# Altium schematic symbol library Resistor.SchLib: 141 symbols (part 2 of 4)
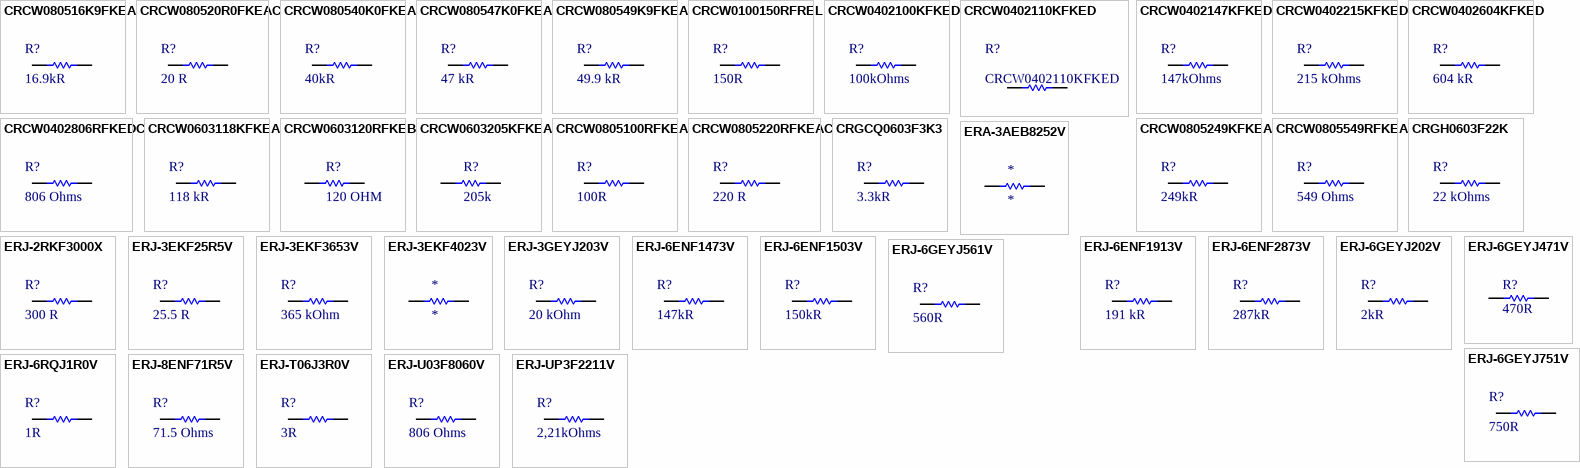
[diagram p4: symbols CRCW080516K9FKEA to ERJ-UP3F2211V]

## CRCW0402110KFKED
designator R?
RES SMD 110K OHM 1% 1/16W 0402; Manufacturer: Vishay; Power: 63mW; Rated Temperature: 70°C; Value: 110kR; Temperature Coefficient: 100ppm/°C; Working Voltage: 50V; Package Height: 0.35mm; Package Length: 1mm; Package Width: 0.5mm; Reference Standard: AEC-Q200; Supplier: Mouser; Supplier Part Number: 71-CRCW0402-110K-E3; Part Number: CRCW0402110KFKED; RoHS: Yes; Category: Chip SMD Resistors; Stock: 113495; Pricing: 1=0,1, 10=0,017, 50=0,017, 100=0,01, 1000=0,008, 10000=0,004 (USD); Mounting Technology: Surface Mount; Pins: 2; Package Shape: Rectangular; Case/Package: 0402; Terminal Finish: Nickel; Min Operating Temperature: -55°C; Max Operating Temperature: 155°C; Tolerance: 1%; JESD-609 Code: e3; Resistor Type: FIXED RESISTOR; Construction: Chip; Packaging: Tape and Reel; Technology: METAL GLAZE/THICK FILM; Termination: Wraparound; Reach SVHC Compliant: Yes; RoHS Compliant: Yes; ComponentLink1URL: https://datasheet.ciiva.com:443/pdfs/VipMasterIC/IC/VISH/VISH-S-A0007266705/VISH-S-A0007266705-1.pdf?src-supplier=IHS+Markit; ComponentLink1Description: https://datasheet.ciiva.com:443/pdfs/VipMasterIC/IC/VISH/VISH-S-A0007266705/VISH-S-A0007266705-1.pdf?src-supplier=IHS+Markit; ComponentLink2URL: https://datasheet.ciiva.com/11808/0900766b80d98824-11808998.pdf?src-supplier=Rs; ComponentLink2Description: https://datasheet.ciiva.com/11808/0900766b80d98824-11808998.pdf?src-supplier=Rs; ComponentLink3URL: https://datasheet.ciiva.com/2463/dcrcwe3-2463796.pdf?src-supplier=Digikey; ComponentLink3Description: https://datasheet.ciiva.com/2463/dcrcwe3-2463796.pdf?src-supplier=Digikey; ComponentLink4URL: https://datasheet.ciiva.com/2463/dcrcwe3-2463797.pdf?src-supplier=Digikey; ComponentLink4Description: https://datasheet.ciiva.com/2463/dcrcwe3-2463797.pdf?src-supplier=Digikey; ComponentLink5URL: https://datasheet.ciiva.com/2463/dcrcwe3-2463798.pdf?src-supplier=Digikey; ComponentLink5Description: https://datasheet.ciiva.com/2463/dcrcwe3-2463798.pdf?src-supplier=Digikey; ComponentLink6URL: https://datasheet.ciiva.com/3255/dcrcwe3-3255981.pdf?src-supplier=Avnet; ComponentLink6Description: https://datasheet.ciiva.com/3255/dcrcwe3-3255981.pdf?src-supplier=Avnet; ComponentLink7URL: https://datasheet.ciiva.com/22871/70201119-22871142.pdf?src-supplier=Allied+Electronics; ComponentLink7Description: https://datasheet.ciiva.com/22871/70201119-22871142.pdf?src-supplier=Allied+Electronics; ComponentLink8URL: https://datasheet.ciiva.com/16776/70201119-16776616.pdf?src-supplier=Allied+Electronics; ComponentLink8Description: https://datasheet.ciiva.com/16776/70201119-16776616.pdf?src-supplier=Allied+Electronics; ComponentLink9URL: https://datasheet.ciiva.com/7714/1697337-7714357.pdf?src-supplier=Element14; ComponentLink9Description: https://datasheet.ciiva.com/7714/1697337-7714357.pdf?src-supplier=Element14
footprint RESISTOR_0402
pins: 1, 2

## CRCW0402147KFKED
designator R?, comment 147kOhms
RES SMD 147K Ohms 1% 1/16W 0402; Manufacturer: Vishay; Part Number: CRCW0402147KFKED; Temperature Coefficient: 100 PPM / C; Power Rating: 62.5 mW (1/16 W); Voltage Rating: 50 V; Library Control - Checked Footprint: Guilherme; Library Control - Last Project that Used: Fuijin-MK1; Supplier 1: Mouser; Category: Thick Film Resistors - SMD; Price: 1=0,10, 10=0,042, 100=0,017 (USD); Package / Case: 0402 (1005 Metric); Operating Temperature: - 55ºC ~ 155ºC; Value: 147kOhms; Tolerance: 1%; Library Ref: Resistor; Resistor Type: Fixo; Size / Dimension: 1 mm L x  0,5 mm W x  0,35 mm H; Supplier Part Number 1: 71-CRCW0402-147K-E3; Library Control - Checked Schematic: Guilherme; Library Control - Last Update: 31/10/21 17:08; Library Control - Person that Checked Footprint: Guilherme; Library Control - Person that Checked Schematic: Guilherme; Library Control - Person that did the Last Update Footprint: Guilherme; Library Control - Person that did the Last Update Schematic: Guilherme; ComponentLink1Description: Mouser Link; ComponentLink1URL: https://br.mouser.com/ProductDetail/Vishay-Dale/CRCW0402147KFKED?qs=zKWstTFjMRahLxJKGZV2jA%3D%3D; ComponentLink2Description: Datasheet Link; ComponentLink2URL: https://www.vishay.com/docs/20035/dcrcwe3.pdf
footprint RESISTOR_1005
pins: 1, 2

## CRCW0402215KFKED
designator R?, comment 215 kOhms
RES SMD 215K Ohms 1% 1/16W 0402; Manufacturer: Vishay; Part Number: CRCW0402215KFKED; Temperature Coefficient: 100 PPM / C; Power Rating: 62.5 mW (1/16 W); Voltage Rating: 50 V; Library Control - Checked Footprint: Guilherme; Library Control - Last Project that Used: Fuijin-MK1; Supplier 1: Mouser; Category: Thick Film Resistors - SMD; Price: 1=0,11, 10=0,04, 100=0,016 1000=0,008 (USD); Package / Case: 0402 (1005 Metric); Operating Temperature: - 55ºC ~ 155ºC; Value: 215 kOhms; Tolerance: 1%; Library Ref: Resistor; Resistor Type: Fixo; Size / Dimension: 1 mm L x  0,5 mm W x  0,35 mm H; Supplier Part Number 1: 71-CRCW0402-215K-E3; Library Control - Checked Schematic: Guilherme; Library Control - Last Update: 17/07/21 13:17; Library Control - Person that Checked Footprint: Guilherme; Library Control - Person that Checked Schematic: Guilherme; Library Control - Person that did the Last Update Footprint: Guilherme; Library Control - Person that did the Last Update Schematic: Guilherme; ComponentLink1Description: Mouser Link; ComponentLink1URL: https://br.mouser.com/ProductDetail/Vishay-Dale/CRCW0402215KFKED?qs=5Tgt%2F%252B%252B8UCesxPWrygJwOA%3D%3D; ComponentLink2Description: Datasheet Link; ComponentLink2URL: https://br.mouser.com/datasheet/2/427/dcrcwe3-1762152.pdf
footprint RESISTOR_1005
pins: 1, 2

## CRCW0402604KFKED
designator R?, comment 604 kR
RES SMD 604K OHM 1% 1/16W 0402; Manufacturer: Vishay / Dale; Part Number: CRCW0402604KFKED; Temperature Coefficient: 100 PPM / C; Power Rating: 62.5mW (1/16 W); Voltage Rating: 50 V; Library Control - Checked Footprint: Yes; Library Control - Person that Checked Footprint: Nikaum; Library Control - Person that did the Last Update Footprint: Nicolas; Supplier 1: Mouser; Category: Thick Film Resistors - SMD; Price: 1 = 0,11, 10 = 0,04, 100 = 0,016 (USD); Package / Case: 0402 (1005 metric); Operating Temperature: - 55 C~155 C; Value: 604 kR; Tolerance: 1 %; Library Ref: Resistor; Resistor Type: Fixo; Size / Dimension: 1,00 L x 0,50 W x 0,35 H; Supplier Part Number 1: 71-CRCW0402-604K-E3; Library Control - Checked Schematic: Yes; Library Control - Last Update: 27/06/2021 21:38; Library Control - Person that Checked Schematic: Nikaum; Library Control - Person that did the Last Update Schematic: Nikaum; ComponentLink1Description: Mouser Link; ComponentLink1URL: https://br.mouser.com/ProductDetail/Vishay-Dale/CRCW0402604KFKED?qs=DKbL89i6OEpzv5ZGRZfINw%3D%3D; ComponentLink2Description: Datasheet Link; ComponentLink2URL: https://br.mouser.com/datasheet/2/427/dcrcwe3-1762152.pdf
footprint RESISTOR_0402
pins: 1, 2

## CRCW0402806RFKEDC
designator R?, comment 806 Ohms
RES SMD 806 OHM 1% 1/16W 0402; Manufacturer: Vishay / Dale; Part Number: CRCW0402806RFKEDC; Temperature Coefficient: 100 PPM / C; Power Rating: 62.5 mW (1/16 W); Voltage Rating: 50V; Supplier 1: Mouser; Category: Thick Film Resistors - SMD; Price: 1= 0,10, 10= 0,032, 100= 0,013 (USD); Package / Case: 0402 (1008 metric); Operating Temperature: -55C ~ +155C; Value: 806 Ohms; Tolerance: 1%; Library Ref: Resistor; Resistor Type: Thick Film; Size / Dimension: 0.35mm x 1mm x 0.5mm (HxLxW); Supplier Part Number 1: 71-CRCW0402806RFKEDC; ComponentLink1Description: Mouser Link; ComponentLink1URL: https://br.mouser.com/ProductDetail/Vishay-Dale/CRCW0402806RFKEDC?qs=E3Y5ESvWgWP1%2FqumsyzMOQ%3D%3D; ComponentLink2Description: Datasheet; ComponentLink2URL: https://br.mouser.com/datasheet/2/427/crcwce3-1762584.pdf
footprint RESISTOR_0402
pins: 1, 2

## CRCW0603118KFKEA
designator R?, comment 118 kR
RES SMD 118K OHM 1% 1/10W 0603; Manufacturer: Vishay / Dale; Part Number: CRCW0603118KFKEA; Temperature Coefficient: 100 PPM / C; Power Rating: 100mW (1/10 W); Voltage Rating: 75 V; Library Control - Checked Footprint: Yes; Library Control - Person that Checked Footprint: Nikaum; Library Control - Person that did the Last Update Footprint: Nicolas; Supplier 1: Mouser; Category: Thick Film Resistors - SMD; Price: 1 = 0,11, 10 = 0,04, 100 = 0,016 (USD); Package / Case: 0603 (1608 metric); Operating Temperature: - 55 C~155 C; Value: 118 kR; Tolerance: 1 %; Library Ref: Resistor; Resistor Type: Fixo; Size / Dimension: 1,55 L x 0,85 W x 0,45 H; Supplier Part Number 1: 71-CRCW0603-118K-E3; Library Control - Checked Schematic: Yes; Library Control - Last Update: 27/06/2021 21:33; Library Control - Person that Checked Schematic: Nikaum; Library Control - Person that did the Last Update Schematic: Nikaum; ComponentLink1Description: Mouser Link; ComponentLink1URL: https://br.mouser.com/ProductDetail/Vishay-Dale/CRCW0603118KFKEA/?qs=nXJh77ZNlsm3NRUJdWnJqw%3D%3D; ComponentLink2Description: Datasheet Link; ComponentLink2URL: https://br.mouser.com/datasheet/2/427/dcrcwe3-1762152.pdf
footprint RESISTOR_0603
pins: 1, 2

## CRCW0603120RFKEB
designator R?, comment 120 OHM
RES SMD 120 OHM 1%, 1/10W 0603; Manufacturer: Vishay Dale; Manufacturer Part Number: CRCW0603120RFKEB; Value: 120R; Power Rating: 100mW; Voltage Rating: 75V; Temperature Coefficient: 100ppm/°C; Supplier: Mouser; Supplier Part Number: 71-CRCW0603120RFKEB; RoHS: Yes; Category: Chip SMD Resistors; Stock: 31640; Pricing: 1=0,1, 10=0,017, 50=0,017, 100=0,01, 1000=0,007, 10000=0,003 (USD); Case/Package: 0603; Weight: 7.1E-05oz; Case Code (Imperial): 0603; Case Code (Metric): 1608; Contact Plating: Tin; Min Operating Temperature: -55°C; Max Operating Temperature: 155°C; Packaging: Tape and Reel; Tolerance: 1%; Package Quantity: 10000; Termination: SMD/SMT; Number of Terminations: 2; Max Power Dissipation: 100mW; Features: Automotive AEC-Q200; Series: CRCW; Length: 0.061inch; Width: 0.85mm; Height: 0.02inch; Radiation Hardening: No; RoHS Compliant: Yes; Lead Free: Lead Free; ComponentLink1URL: http://www.mouser.com/ds/2/427/dcrcwe3-109170.pdf?src-supplier=Mouser; ComponentLink1Description: http://www.mouser.com/ds/2/427/dcrcwe3-109170.pdf?src-supplier=Mouser; ComponentLink2URL: http://www.vishay.com/docs/20035/dcrcwe3.pdf?src-supplier=Digi-Key; ComponentLink2Description: http://www.vishay.com/docs/20035/dcrcwe3.pdf?src-supplier=Digi-Key; ComponentLink3URL: http://www.vishay.com/docs/20035/dcrcwe3.pdf?src-supplier=Avnet; ComponentLink3Description: http://www.vishay.com/docs/20035/dcrcwe3.pdf?src-supplier=Avnet; ComponentLink4Description: Mouser; ComponentLink4URL: https://br.mouser.com/ProductDetail/Vishay-Dale/CRCW0603120RFKEB?qs=dDPdN3FizmvilTdykVuEkA%3D%3D
footprint RESISTOR_0603
pins: 1, 2

## CRCW0603205KFKEA
designator R?, comment 205k
RES SMD 205K OHM 1% 1/10W 0603; Manufacturer: Vishay; Manufacturer Part Number: CRCW0603205KFKEA; Value: 205kR; Temperature Coefficient: 100ppm/°C; Max Power Dissipation: 100mW; Voltage Rating: 75V; Supplier: Mouser; Supplier Part Number: 71-CRCW0603-205K-E3; RoHS: Yes; Category: Chip SMD Resistors; Stock: 14355; Pricing: 1=0,1, 10=0,019, 50=0,019, 100=0,009, 1000=0,007, 10000=0,004 (USD); Case/Package: 0603; Pins: 2; Weight: 7.1E-05oz; Case Code (Metric): 1608; Case Code (Imperial): 0603; Contact Plating: Tin; Min Operating Temperature: -55°C; Max Operating Temperature: 155°C; Tolerance: 1%; Packaging: Tape and Reel; Package Quantity: 10; Number of Terminations: 2; Features: Automotive AEC-Q200; Series: CRCW; Power Rating: 100mW; Resistor Type: Thick Film; Termination: SMD/SMT; Voltage Rating (DC): 75V; Resistance Tolerance: 1%; Construction: Rectangular; Length: 1.55mm; Width: 0.033inch; Height: 0.02inch; Depth: 0.85mm; Ratings: AEC-Q200; Radiation Hardening: No; Lead Free: Lead Free; RoHS Compliant: Yes; Military Standard: Not; Reach SVHC Compliant: Unknown; ComponentLink1URL: https://datasheet.ciiva.com/7792/125364-7792124.pdf?src-supplier=Element14; ComponentLink1Description: https://datasheet.ciiva.com/7792/125364-7792124.pdf?src-supplier=Element14; ComponentLink2URL: https://datasheet.ciiva.com/7674/1697337-7674043.pdf?src-supplier=Element14; ComponentLink2Description: https://datasheet.ciiva.com/7674/1697337-7674043.pdf?src-supplier=Element14; ComponentLink3URL: https://datasheet.ciiva.com/7674/1697337-7674042.pdf?src-supplier=Element14; ComponentLink3Description: https://datasheet.ciiva.com/7674/1697337-7674042.pdf?src-supplier=Element14; ComponentLink4URL: https://datasheet.ciiva.com/2525/dcrcwe3-2525396.pdf?src-supplier=Digi-Key; ComponentLink4Description: https://datasheet.ciiva.com/2525/dcrcwe3-2525396.pdf?src-supplier=Digi-Key; ComponentLink5URL: https://datasheet.ciiva.com/2525/dcrcwe3-2525397.pdf?src-supplier=Digi-Key; ComponentLink5Description: https://datasheet.ciiva.com/2525/dcrcwe3-2525397.pdf?src-supplier=Digi-Key; ComponentLink6URL: https://datasheet.ciiva.com/2525/dcrcwe3-2525395.pdf?src-supplier=Digi-Key; ComponentLink6Description: https://datasheet.ciiva.com/2525/dcrcwe3-2525395.pdf?src-supplier=Digi-Key; ComponentLink7URL: https://datasheet.ciiva.com/5540/dcrcwe3-109170-5540892.pdf?src-supplier=Mouser; ComponentLink7Description: https://datasheet.ciiva.com/5540/dcrcwe3-109170-5540892.pdf?src-supplier=Mouser; ComponentLink8Description: Mouser; ComponentLink8URL: https://br.mouser.com/ProductDetail/Vishay-Dale/CRCW0603205KFKEA?qs=sGAEpiMZZMukHu%252BjC5l7YXU6%2FA%252BSu72pbWZDHXBXtJw%3D
footprint RESISTOR_0603
pins: 1, 2

## CRCW0805100RFKEA
designator R?, comment 100R
RES SMD 100 OHM 1% 1/8W 0805; Manufacturer: Vishay / Dale; Part Number: CRCW0805100RFKEA; Temperature Coefficient: 100 PPM / C; Power Rating: 125 mW (1/8 W); Voltage Rating: 150 V; Library Control - Checked Footprint: No; Library Control - Checked Schematic: Yes; Library Control - Person that Checked Schematic: Marcos; Library Control - Person that did the Last Update Footprint: Dalarme; Supplier 1: Mouser; Category: Thick Film Resistors - SMD; Price: 1=0,18, 10=0,065, 100=0,027, 1000=0,012 (USD); Package / Case: 0805 (2012 Metric); Operating Temperature: - 55ºC ~ 155ºC; Value: 100R; Tolerance: 1 %; Library Ref: Resistor; Resistor Type: Fixo; Size / Dimension: 2 mm L x  1.25 mm W x  0.45 mm H; Supplier Part Number 1: 71-CRCW0805-100-E3; Library Control - Last Update: 20/06/21 16:56; Library Control - Person that did the Last Update Schematic: Marcos; ComponentLink1Description: Mouser Link; ComponentLink1URL: https://www.mouser.com/ProductDetail/Vishay-Dale/CRCW0805100RFKEA?qs=sGAEpiMZZMu61qfTUdNhG2DpbjADlD3GxPcNG3UnvYk%3D; ComponentLink2Description: Datasheet Link; ComponentLink2URL: https://www.mouser.com/datasheet/2/427/dcrcwe3-1762152.pdf
footprint RESISTOR_0805
pins: 1, 2

## CRCW0805220RFKEAC
designator R?, comment 220 R
RES SMD 220 OHM 1% 1/10W 0805; Manufacturer: Vishay / Dale; Part Number: CRCW0805220RFKEAC; Temperature Coefficient: 100 PPM / C; Power Rating: 125 mW(1/8 W); Voltage Rating: 150 V; Library Control - Checked Footprint: Yes; Library Control - Person that Checked Footprint: Nikaum; Library Control - Person that Checked Schematic: Guilherme; Library Control - Person that did the Last Update Footprint: Nicolas; Supplier 1: Mouser; Category: Thick Film Resistors - SMD; Price: 1=0,10, 10=0,059, 100=0,024 (USD); Package / Case: 0805 (2012 Metric); Operating Temperature: - 55°C ~ 155°C; Value: 220 R; Tolerance: 1 %; Library Ref: Resistor; Resistor Type: Fixo; Size / Dimension: 2,00 L x 1,25 W x 0,45 H; Supplier Part Number 1: 71-CRCW0805220RFKEAC; Library Control - Checked Schematic: Yes; Library Control - Last Update: 27/06/2021 20:34; Library Control - Person that did the Last Update Schematic: Nikaum; ComponentLink1Description: Mouser Link; ComponentLink1URL: https://br.mouser.com/ProductDetail/Vishay-Dale/CRCW0805220RFKEAC?qs=%2Fha2pyFadui6t5gBae62oVC8Jw3KURWiTijmJtzJ%2FwZHA3XMX06wmwYXzj5PSsTm; ComponentLink2Description: Datasheet; ComponentLink2URL: https://br.mouser.com/datasheet/2/427/crcwce3-1762584.pdf
footprint RESISTOR_0805
pins: 1, 2

## CRCW0805249KFKEA
designator R?, comment 249kR
RES SMD 249K OHM 1% 1/8W 0805; Manufacturer: Vishay / Dale; Part Number: CRCW0805249KFKEA; Temperature Coefficient: 100 PPM / C; Power Rating: 125 mW (1/8 W); Voltage Rating: 150 V; Library Control - Checked Footprint: No; Library Control - Checked Schematic: Yes; Library Control - Person that Checked Schematic: Marcos; Library Control - Person that did the Last Update Footprint: Dalarme; Supplier 1: Mouser; Category: Thick Film Resistors - SMD; Price: 1=0,18, 10=0,065, 100=0,027 1000=0,012 (USD); Package / Case: 0805 (2012 Metric); Operating Temperature: - 55ºC ~ 155ºC; Value: 249kR; Tolerance: 1 %; Library Ref: Resistor; Resistor Type: Fixo; Size / Dimension: 2 mm L x  1.25 mm W x  0.45 mm H; Supplier Part Number 1: 71-CRCW0805-249K-E3; Library Control - Last Update: 21/06/21 15:40; Library Control - Person that did the Last Update Schematic: Marcos; ComponentLink1Description: Mouser Link; ComponentLink1URL: https://www.mouser.com/ProductDetail/Vishay-Dale/CRCW0805249KFKEA?qs=%2Fha2pyFaduhkDOWkOJXWlGd1WMXaUgXuAgPdkVedxkHPM1mWPj6Q%2Fw%3D%3D; ComponentLink2Description: Datasheet Link; ComponentLink2URL: https://www.mouser.com/datasheet/2/427/dcrcwe3-1762152.pdf
footprint RESISTOR_0805
pins: 1, 2

## CRCW0805549RFKEA
designator R?, comment 549 Ohms
RES SMD 549ohms 1% 1/8watt 0805; Manufacturer: Vishay / Dale; Part Number: CRCW0805549RFKEA; Temperature Coefficient: 100 PPM / C; Power Rating: 125 mW (1/8 W); Voltage Rating: 150 V; Library Control - Checked Footprint: Yes; Library Control - Person that Checked Footprint: Firme; Supplier 1: Mouser; Category: Thick Film Resistors - SMD; Price: 1=0,18, 10=0,065, 100=0,027 (USD); Package / Case: 0805 (2012 Metric); Operating Temperature: - 55ºC ~ 155ºC; Value: 549 Ohms; Tolerance: 1 %; Library Ref: Resistor; Resistor Type: FIxed; Size / Dimension: 2 mm L x  1.25 mm W x  0.45 mm H; Supplier Part Number 1: 71-CRCW0805-549-E3; Library Control - Checked Schematic: Yes; Library Control - Last Update: 16/08/2022 15:28; Library Control - Person that Checked Schematic: Firme; Library Control - Person that did the Last Update Footprint: Firme; Library Control - Person that did the Last Update Schematic: Firme; ComponentLink1Description: Mouser Link; ComponentLink1URL: https://br.mouser.com/ProductDetail/Vishay-Dale/CRCW0805549RFKEA?qs=r9eRdsXhpKqEUVaaFX84pA%3D%3D; ComponentLink2Description: Datasheet; ComponentLink2URL: https://br.mouser.com/datasheet/2/427/dcrcwe3-1762152.pdf
footprint RESISTOR_0805
pins: 1, 2

## CRGCQ0603F3K3
designator R?, comment 3.3kR
RES SMD 3.3K OHM 1% 1/10W 0603; Manufacturer: TE Connectivity / Holsworthy; Part Number: CRGCQ0603F3K3; Temperature Coefficient: 100 PPM / C; Power Rating: 100 mW (1/10 W); Voltage Rating: 75 V; Library Control - Checked Footprint: Yes; Library Control - Person that Checked Footprint: Nikaum; Library Control - Person that Checked Schematic: Guilherme; Library Control - Person that did the Last Update Footprint: Dalarme; Supplier 1: Mouser; Category: Thick Film Resistors; Price: 1=0,10, 10=0,029, 100=0,011 (USD); Package / Case: 0603 (1608 Metric); Operating Temperature: - 55ºC ~ 125ºC; Value: 3.3kR; Tolerance: 1 %; Library Ref: Resistor; Resistor Type: Fixed; Size / Dimension: 1.6 mm L x  0.8 mm W x  0.45 mm H; Supplier Part Number 1: 279-CRGCQ0603F3K3; Library Control - Checked Schematic: Yes; Library Control - Last Update: 27/06/2021 20:27; Library Control - Person that did the Last Update Schematic: Dalarme; ComponentLink1Description: Mouser Link; ComponentLink1URL: https://br.mouser.com/ProductDetail/TE-Connectivity-Holsworthy/CRGCQ0603F3K3?qs=sGAEpiMZZMvdGkrng054t7z4BkURc4Lz7mzhBruKq8fwVJ16OlxZFQ%3D%3D; ComponentLink2Description: Datasheet; ComponentLink2URL: https://br.mouser.com/datasheet/2/418/4/NG_DS_1773204-3_1-1358553.pdf
footprint RESISTOR_0603
pins: 1, 2

## CRGH0603F22K
designator R?, comment 22 kOhms
RES SMD 22K OHM 1% 1/5W 0603; Manufacturer: TE Connectivity / Holsworthy; Part Number: CRGH0603F22K; Temperature Coefficient: 100 PPM / C; Power Rating: 200 mW (1/5 W); Voltage Rating: 50 V; Supplier 1: Mouser; Category: Thick Film Resistors; Price: 1= 0.10, 10= 0.07, 100= 0.027 (USD); Package / Case: 0603 (1608 metric); Operating Temperature: -55C~155C; Value: 22 kOhms; Tolerance: 1%; Library Ref: Resistor; Resistor Type: Fixo; Size / Dimension: 0.45 mm x 1.6 mm x 0.8 mm (HxLxW); Supplier Part Number 1: 279-CRGH0603F22K; ComponentLink1Description: Mouser Link; ComponentLink1URL: https://br.mouser.com/ProductDetail/TE-Connectivity-Holsworthy/CRGH0603F22K?qs=j1jvDfvplqKqyIzG56xhJw%3D%3D; ComponentLink2Description: Datasheet; ComponentLink2URL: https://br.mouser.com/datasheet/2/418/6/ENG_DS_1773204_1_F-1140248.pdf
footprint RESISTOR_0603
pins: 1, 2

## ERA-3AEB8252V
designator *
RES SMD 82.5K OHM 1% 1/10W 0603; Manufacturer: Panasonic; Manufacturer Part Number: ERA-3AEB8252V; Supplier: Mouser; Supplier Part Number: 667-ERA-3AEB8252V; RoHS: Yes; Category: Chip SMD Resistors; Stock: 12247; Pricing: 1=0,13, 10=0,078, 50=0,078, 100=0,07, 500=0,054, 1000=0,047, 5000=0,034, 10000=0,034, 25000=0,033 (USD); ComponentLink1URL: https://datasheet.ciiva.com/11814/0900766b80eb1d8c-11814911.pdf?src-supplier=Rs; ComponentLink1Description: https://datasheet.ciiva.com/11814/0900766b80eb1d8c-11814911.pdf?src-supplier=Rs; ComponentLink2URL: https://datasheet.ciiva.com/24024/aoa0000ce26-197354-24024505.pdf?src-supplier=Mouser; ComponentLink2Description: https://datasheet.ciiva.com/24024/aoa0000ce26-197354-24024505.pdf?src-supplier=Mouser; ComponentLink3URL: https://datasheet.ciiva.com/6053/485442-6053161.pdf?src-supplier=Farnell; ComponentLink3Description: https://datasheet.ciiva.com/6053/485442-6053161.pdf?src-supplier=Farnell; ComponentLink4URL: https://datasheet.ciiva.com/6053/485442-6053163.pdf?src-supplier=Farnell; ComponentLink4Description: https://datasheet.ciiva.com/6053/485442-6053163.pdf?src-supplier=Farnell; ComponentLink5URL: https://datasheet.ciiva.com/6053/485442-6053165.pdf?src-supplier=Farnell; ComponentLink5Description: https://datasheet.ciiva.com/6053/485442-6053165.pdf?src-supplier=Farnell; ComponentLink6URL: https://datasheet.ciiva.com/41450/001180929-da-01-en-widerstand-era-0603-82k5-0-1-5000st-41450245.pdf?src-supplier=Conrad; ComponentLink6Description: https://datasheet.ciiva.com/41450/001180929-da-01-en-widerstand-era-0603-82k5-0-1-5000st-41450245.pdf?src-supplier=Conrad
footprint RESISTOR_0603
pins: 1, 2

## ERJ-2RKF3000X
designator R?, comment 300 R
RES SMD 300 OHM 1% 1/10W 0402; Manufacturer: Panasonic; Part Number: ERJ-2RKF3000X; Temperature Coefficient: 100 PPM / C; Power Rating: 100 mW (1/10 W); Voltage Rating: 50 V; Library Control - Checked Footprint: Yes; Library Control - Person that Checked Footprint: Nikaum; Library Control - Person that did the Last Update Footprint: Nicholas; Supplier 1: Mouser; Category: Thick Film Resistors - SMD; Price: 1 = 0,10, 10 = 0,022, 100 = 0,009 (USD); Package / Case: 0402 (1005 Metric); Operating Temperature: - 55°C ~155°C; Value: 300 R; Tolerance: 1 %; Library Ref: Resistor; Resistor Type: Fixed; Size / Dimension: 1,00 L x 0,50 W x 0,35 H; Supplier Part Number 1: 667-ERJ-2RKF3000X; Library Control - Checked Schematic: Yes; Library Control - Last Update: 27/06/2021 20:46; Library Control - Person that Checked Schematic: Nikaum; Library Control - Person that did the Last Update Schematic: Nikaum; ComponentLink1Description: Mouser Link; ComponentLink1URL: https://br.mouser.com/ProductDetail/Panasonic/ERJ-2RKF3000X?qs=YMBIwoNQYdXXslVZpfxx%2Fw%3D%3D; ComponentLink2Description: Datasheet; ComponentLink2URL: https://br.mouser.com/datasheet/2/315/AOA0000C304-1149620.pdf
footprint RESISTOR_0402
pins: 1, 2

## ERJ-3EKF25R5V
designator R?, comment 25.5 R
RES SMD 25.5 OHM 1% 1/10W 0603; Manufacturer: Panasonic; Part Number: ERJ-3EKF25R5V; Temperature Coefficient: 100 PPM / C; Power Rating: 100mW (1/10 W); Voltage Rating: 75 V; Library Control - Checked Footprint: Yes; Library Control - Person that Checked Footprint: Nikaum; Library Control - Person that did the Last Update Footprint: Nicolas; Supplier 1: Mouser; Category: Thick Film Resistors - SMD; Price: 1 = 0,10, 10 = 0,032, 100 = 0,013 (USD); Package / Case: 0603 (1608 metric); Operating Temperature: - 55 C~155 C; Value: 25.5 R; Tolerance: 1 %; Library Ref: Resistor; Resistor Type: Fixo; Size / Dimension: 1,60 L x 0,80 W x 0,45 H; Supplier Part Number 1: 667-ERJ-3EKF25R5V; Library Control - Checked Schematic: Yes; Library Control - Last Update: 27/06/2021 21:16; Library Control - Person that Checked Schematic: Nikaum; Library Control - Person that did the Last Update Schematic: Nikaum; ComponentLink1Description: Mouser Link; ComponentLink1URL: https://br.mouser.com/ProductDetail/Panasonic/ERJ-3EKF25R5V?qs=iBwFsHVUAOfMQYWcKXnGtA%3D%3D; ComponentLink2Description: Datasheet Link; ComponentLink2URL: https://br.mouser.com/datasheet/2/315/AOA0000C304-1149620.pdf
footprint RESISTOR_0603
pins: 1, 2

## ERJ-3EKF3653V
designator R?, comment 365 kOhm
RES SMD 365 kOHM 1% 1/10W 0603; Manufacturer: Panasonic; Part Number: ERJ-3EKF3653V; Temperature Coefficient: 200 PPM / C; Power Rating: 125mW (1/8 W); Voltage Rating: 75 V; Supplier 1: Mouser; Category: Thick Film Resistors - SMD; Price: 1 = 0,10, 10 = 0,06, 100 = 0,021 (USD); Package / Case: 0603 (1608 Metric); Operating Temperature: - 55 C~155 C; Value: 365 kOhm; Tolerance: 1 %; Library Ref: Resistor; Resistor Type: Fixo; Size / Dimension: 2  L x 1,25 W x 0,5 H; Supplier Part Number 1: 667-ERJ-3EKF3653V; ComponentLink1Description: Mouser Link; ComponentLink1URL: https://br.mouser.com/ProductDetail/Panasonic/ERJ-3EKF3653V?qs=sGAEpiMZZMtlubZbdhIBILWcrV%252BWBYJCA7Tvb8tM8pA%3D; ComponentLink2Description: Datasheet Link; ComponentLink2URL: https://br.mouser.com/datasheet/2/315/AOA0000C304-1149620.pdf
footprint RESISTOR_0603
pins: 1, 2

## ERJ-3EKF4023V
designator *
RES SMD 402K OHM 1% 1/10W 0603; Manufacturer: Panasonic; Manufacturer Part Number: ERJ-3EKF4023V; Power: 100mW; Rated Temperature: 70°C; Value: 402kR; Temperature Coefficient: 100ppm/°C; Working Voltage: 75V; Package Height: 0.45mm; Package Length: 1.6mm; Package Width: 0.8mm; Reference Standard: AEC-Q200; Supplier: Mouser; Supplier Part Number: 667-ERJ-3EKF4023V; RoHS: Yes; Category: Chip SMD Resistors; Stock: 62276; Pricing: 1=0,1, 10=0,02, 50=0,02, 100=0,012, 1000=0,01, 5000=0,006, 10000=0,005 (USD); Mounting Technology: Surface Mount; Pins: 2; Package Shape: Rectangular; Case/Package: 0603; Terminal Finish: Nickel; Min Operating Temperature: -55°C; Max Operating Temperature: 155°C; Tolerance: 1%; JESD-609 Code: e3; Resistor Type: FIXED RESISTOR; Construction: Rectangular; Packaging: Tape and Reel; Technology: METAL GLAZE/THICK FILM; Termination: Wraparound; Reach SVHC Compliant: Yes; RoHS Compliant: Yes; ComponentLink1URL: https://datasheet.ciiva.com:443/pdfs/VipMasterIC/IC/PANA/PANA-S-A0009889626/PANA-S-A0009889626-1.pdf?src-supplier=IHS+Markit; ComponentLink1Description: https://datasheet.ciiva.com:443/pdfs/VipMasterIC/IC/PANA/PANA-S-A0009889626/PANA-S-A0009889626-1.pdf?src-supplier=IHS+Markit; ComponentLink2URL: https://datasheet.ciiva.com/27097/1988102-27097059.pdf?src-supplier=Jameco; ComponentLink2Description: https://datasheet.ciiva.com/27097/1988102-27097059.pdf?src-supplier=Jameco; ComponentLink3URL: https://datasheet.ciiva.com/9117/aoa0000ce2-9117277.pdf?src-supplier=Avnet; ComponentLink3Description: https://datasheet.ciiva.com/9117/aoa0000ce2-9117277.pdf?src-supplier=Avnet; ComponentLink4URL: https://datasheet.ciiva.com/9182/aoa0000ce2-9182270.pdf?src-supplier=Avnet; ComponentLink4Description: https://datasheet.ciiva.com/9182/aoa0000ce2-9182270.pdf?src-supplier=Avnet; ComponentLink5URL: https://datasheet.ciiva.com/22722/1678782-22722077.pdf?src-supplier=Farnell; ComponentLink5Description: https://datasheet.ciiva.com/22722/1678782-22722077.pdf?src-supplier=Farnell; ComponentLink6URL: https://datasheet.ciiva.com/16762/70260748-16762567.pdf?src-supplier=Allied+Electronics; ComponentLink6Description: https://datasheet.ciiva.com/16762/70260748-16762567.pdf?src-supplier=Allied+Electronics; ComponentLink7URL: https://datasheet.ciiva.com/16764/70260748-16764841.pdf?src-supplier=Allied+Electronics; ComponentLink7Description: https://datasheet.ciiva.com/16764/70260748-16764841.pdf?src-supplier=Allied+Electronics; ComponentLink8URL: https://datasheet.ciiva.com/28564/1694929-28564248.pdf?src-supplier=Element14; ComponentLink8Description: https://datasheet.ciiva.com/28564/1694929-28564248.pdf?src-supplier=Element14; ComponentLink9URL: https://datasheet.ciiva.com/22673/1678782-22673551.pdf?src-supplier=Element14; ComponentLink9Description: https://datasheet.ciiva.com/22673/1678782-22673551.pdf?src-supplier=Element14
footprint RESISTOR_0603
pins: 1, 2

## ERJ-3GEYJ203V
designator R?, comment 20 kOhm
RES SMD 20 kOHM 1% 1/10W 0603; Manufacturer: Panasonic; Part Number: ERJ-3GEYJ203V; Tolerance: 5 %; Temperature Coefficient: 100 PPM / C; Power Rating: 100mW (1/10 W); Voltage Rating: 75 V; Supplier 1: Mouser; Category: Thick Film Resistors - SMD; Price: 1 = 0,10, 10 = 0,032, 100 = 0,013 (USD); Package / Case: 0603 (1608 metric); Operating Temperature: - 55 C~155 C; Value: 20 kOhm; Library Ref: Resistor; Resistor Type: Fixo; Size / Dimension: 1,60 L x 0,80 W x 0,45 H; Supplier Part Number 1: 667-ERJ-3GEYJ203V; ComponentLink1Description: Mouser Link; ComponentLink1URL: https://br.mouser.com/ProductDetail/Panasonic/ERJ-3GEYJ203V?qs=4WZYzuGhm5oR10lJ%252BqFZyQ%3D%3D; ComponentLink2Description: Datasheet Link; ComponentLink2URL: https://br.mouser.com/datasheet/2/315/AOA0000C301-1488782.pdf
footprint RESISTOR_0603
pins: 1, 2

## ERJ-6ENF1473V
designator R?, comment 147kR
RES SMD 147K OHM 1% 1/8W 0805; Manufacturer: Panasonic; Part Number: ERJ-6ENF1473V; Temperature Coefficient: 100 PPM / C; Power Rating: 125 mW (1/8 W); Voltage Rating: 150 V; Library Control - Checked Footprint: No; Library Control - Checked Schematic: Yes; Library Control - Person that Checked Schematic: Marcos; Library Control - Person that did the Last Update Footprint: Dalarme; Supplier 1: Mouser; Category: Thick Film Resistors - SMD; Price: 1=0,10, 10=0,081, 100=0,031 1000=0,011 (USD); Package / Case: 0805 (2012 Metric); Operating Temperature: - 55ºC ~ 155ºC; Value: 147kR; Tolerance: 1 %; Library Ref: Resistor; Resistor Type: Fixo; Size / Dimension: 2 mm L x  1.25 mm W x  0.6 mm H; Supplier Part Number 1: 667-ERJ-6ENF1473V; Library Control - Last Update: 21/06/21 14:35; Library Control - Person that did the Last Update Schematic: Marcos; ComponentLink1Description: Mouser Link; ComponentLink1URL: https://www.mouser.com/ProductDetail/Panasonic/ERJ-6ENF1473V?qs=%2Fha2pyFadujWqMGonbcVXWwXMYaIuq5GHKqLFAIP2xNGjmqSEc%252BekQ%3D%3D; ComponentLink2Description: Datasheet Link; ComponentLink2URL: https://www.mouser.com/datasheet/2/315/AOA0000C304-1149620.pdf
footprint RESISTOR_0805
pins: 1, 2

## ERJ-6ENF1503V
designator R?, comment 150kR
RES SMD 150K OHM 1% 1/8W 0805; Manufacturer: Panasonic; Part Number: ERJ-6ENF1503V; Temperature Coefficient: 100 PPM / C; Power Rating: 125 mW (1/8 W); Voltage Rating: 150 V; Library Control - Checked Footprint: No; Library Control - Checked Schematic: Yes; Library Control - Person that Checked Schematic: Marcos; Library Control - Person that did the Last Update Footprint: Dalarme; Supplier 1: Mouser; Category: Thick Film Resistors - SMD; Price: 1=0,10, 10=0,072, 100=0,028 1000=0,013 (USD); Package / Case: 0805 (2012 Metric); Operating Temperature: - 55ºC ~ 155ºC; Value: 150kR; Tolerance: 1 %; Library Ref: Resistor; Resistor Type: Fixo; Size / Dimension: 2 mm L x  1.2 mm W x  0.6 mm H; Supplier Part Number 1: 667-ERJ-6ENF1503V; Library Control - Last Update: 21/06/21 14:50; Library Control - Person that did the Last Update Schematic: Marcos; ComponentLink1Description: Mouser Link; ComponentLink1URL: https://www.mouser.com/ProductDetail/Panasonic/ERJ-6ENF1503V?qs=%2Fha2pyFadujWqMGonbcVXZ4ilSYTCtvzmps6OSFpSb8bGFothQhspw%3D%3D; ComponentLink2Description: Datasheet Link; ComponentLink2URL: https://www.mouser.com/datasheet/2/315/AOA0000C304-1149620.pdf
footprint RESISTOR_0805
pins: 1, 2

## ERJ-6ENF1913V
designator R?, comment 191 kR
RES SMD 191K OHM 1% 1/8W 0805; Manufacturer: Panasonic; Part Number: ERJ-6ENF1913V; Temperature Coefficient: 100 PPM / C; Power Rating: 62,5mW (1/16 W); Voltage Rating: 150 V; Library Control - Checked Footprint: Yes; Library Control - Person that Checked Footprint: Nikaum; Library Control - Person that did the Last Update Footprint: Nicolas; Supplier 1: Mouser; Category: Thick Film Resistors - SMD; Price: 1 = 0,10, 10 = 0,081, 100 = 0,031 (USD); Package / Case: 0805 (2012 metric); Operating Temperature: - 55 C~155 C; Value: 191 kR; Tolerance: 1 %; Library Ref: Resistor; Resistor Type: Fixo; Size / Dimension: 2,00 L x 1,20 W x 0,60 H; Supplier Part Number 1: 667-ERJ-6ENF1913V; Library Control - Checked Schematic: Yes; Library Control - Last Update: 27/06/2021 21:45; Library Control - Person that Checked Schematic: Nikaum; Library Control - Person that did the Last Update Schematic: Nikaum; ComponentLink1Description: Mouser Link; ComponentLink1URL: https://br.mouser.com/ProductDetail/Panasonic/ERJ-6ENF1913V?qs=JjxTDIFmKPT26nwOK%2FF6sA%3D%3D; ComponentLink2Description: Datasheet Link; ComponentLink2URL: https://br.mouser.com/datasheet/2/315/AOA0000C304-1149620.pdf
footprint RESISTOR_0805
pins: 1, 2

## ERJ-6ENF2873V
designator R?, comment 287kR
RES SMD 287K OHM 1% 1/8W 0805; Manufacturer: Panasonic; Part Number: ERJ-6ENF2873V; Temperature Coefficient: 100 PPM / C; Power Rating: 125 mW (1/8 W); Voltage Rating: 150 V; Library Control - Checked Footprint: No; Library Control - Checked Schematic: Yes; Library Control - Person that Checked Schematic: Marcos; Library Control - Person that did the Last Update Footprint: Dalarme; Supplier 1: Mouser; Category: Thick Film Resistors - SMD; Price: 1=0,10, 10=0,081, 100=0,031 1000=0,011 (USD); Package / Case: 0805 (2012 Metric); Operating Temperature: - 55ºC ~ 155ºC; Value: 287kR; Tolerance: 1 %; Library Ref: Resistor; Resistor Type: Fixo; Size / Dimension: 2 mm L x  1.2 mm W x  0.6 mm H; Supplier Part Number 1: 667-ERJ-6ENF2873V; Library Control - Last Update: 21/06/21 15:46; Library Control - Person that did the Last Update Schematic: Marcos; ComponentLink1Description: Mouser Link; ComponentLink1URL: https://www.mouser.com/ProductDetail/Panasonic/ERJ-6ENF2873V?qs=%2Fha2pyFadujWqMGonbcVXXc0zZsdSP1dZYYcRXEsXZFr4GNb89oOKQ%3D%3D; ComponentLink2Description: Datasheet Link; ComponentLink2URL: https://www.mouser.com/datasheet/2/315/AOA0000C304-1149620.pdf
footprint RESISTOR_0805
pins: 1, 2

## ERJ-6GEYJ202V
designator R?, comment 2kR
RES SMD 2K OHM 5% 1/8W 0805; Manufacturer: Panasonic; Part Number: ERJ-6GEYJ202V; Temperature Coefficient: 200 PPM / C; Power Rating: 125 mW (1/8 W); Voltage Rating: 150 V; Library Control - Checked Footprint: No; Library Control - Checked Schematic: Yes; Library Control - Person that Checked Schematic: Marcos; Library Control - Person that did the Last Update Footprint: Dalarme; Supplier 1: Mouser; Category: Thick Film Resistors - SMD; Price: 1=0,10, 10=0,043, 100=0,02 1000=0,011(USD); Package / Case: 0805 (2012 Metric); Operating Temperature: - 55ºC ~ 155ºC; Value: 2kR; Tolerance: 5 %; Library Ref: Resistor; Resistor Type: Fixo; Size / Dimension: 2 mm L x  1.25 mm W x  0.6 mm H; Supplier Part Number 1: 667-ERJ-6GEYJ202V; Library Control - Last Update: 21/06/21 15:55; Library Control - Person that did the Last Update Schematic: Marcos; ComponentLink1Description: Mouser Link; ComponentLink1URL: https://www.mouser.com/ProductDetail/Panasonic/ERJ-6GEYJ202V?qs=tQNqqtTOejIIQ7OKxiM92w%3D%3D; ComponentLink2Description: Datasheet Link; ComponentLink2URL: https://www.mouser.com/datasheet/2/315/AOA0000C301-1488782.pdf
footprint RESISTOR_0805
pins: 1, 2

## ERJ-6GEYJ471V
designator R?, comment 470R
RES SMD 470 OHM 5% 1/8W 0805; Manufacturer: Panasonic; Part Number: 667-ERJ-6GEYJ471V; Temperature Coefficient: 200 PPM / C; Power Rating: 125 mW (1/8 W); Voltage Rating: 150 V; Library Control - Checked Footprint: No; Library Control - Checked Schematic: Yes; Library Control - Person that Checked Schematic: Marcos; Library Control - Person that did the Last Update Footprint: Dalarme; Supplier 1: Mouser; Category: Thick Film Resistors - SMD; Price: 1=0,1000, 10=0,04300, 100=0,02000 1000 = 0,009(USD); Package / Case: 0805 (2012 Metric); Operating Temperature: - 55ºC ~ 155ºC; Tolerance: 5 %; Library Ref: Resistor; Resistor Type: Fixo; Size / Dimension: 2 mm L x  1.25 mm W x  0.6 mm H; Supplier Part Number 1: 667-ERJ-6GEYJ471V; Library Control - Last Update: 20/06/21 16:06; Library Control - Person that did the Last Update Schematic: Marcos; ComponentLink1Description: Datasheet Link; ComponentLink1URL: https://br.mouser.com/datasheet/2/315/AOA0000C301-1488782.pdf; ComponentLink2Description: Mouser Link; ComponentLink2URL: https://www.mouser.com/ProductDetail/Panasonic/ERJ-6GEYJ471V?qs=%2Fha2pyFadujWqMGonbcVXQOcxwQBA8OuqUzw3XmrY6vv5LW7wYDrug%3D%3D; Value: 470R
footprint RESISTOR_0805
pins: 1, 2

## ERJ-6GEYJ561V
designator R?, comment 560R
RES SMD 560 OHM 5% 1/8W 0805; Manufacturer: Panasonic; Part Number: ERJ-6GEYJ561V; Temperature Coefficient: 200 PPM / C; Power Rating: 125 mW (1/8 W); Voltage Rating: 150 V; Library Control - Checked Footprint: No; Library Control - Checked Schematic: Yes; Library Control - Person that Checked Schematic: Marcos; Library Control - Person that did the Last Update Footprint: Dalarme; Supplier 1: Mouser; Category: Thick Film Resistors - SMD; Price: 1=0,1000, 10=0,0570, 100=0,0240 1000 = 0,009(USD); Package / Case: 0805 (2012 Metric); Operating Temperature: - 55 ºC ~ 155 ºC; Value: 560R; Tolerance: 5 %; Library Ref: Resistor; Resistor Type: Fixo; Size / Dimension: 2 mm L x  1.25 mm W x  0.6 mm H; Supplier Part Number 1: 667-ERJ-6GEYJ561V; Library Control - Last Update: 20/06/21 15:23; Library Control - Person that did the Last Update Schematic: Marcos; ComponentLink1Description: Mouser Link; ComponentLink1URL: https://br.mouser.com/ProductDetail/Panasonic/ERJ-6GEYJ561V?qs=%2Fha2pyFadujWqMGonbcVXVSDhMt8ErmxgLQZ2885LZcMb7gQ7yYKdA%3D%3D; ComponentLink2Description: Datasheet Link; ComponentLink2URL: https://www.mouser.com/datasheet/2/315/AOA0000C301-1488782.pdf
footprint RESISTOR_0805
pins: 1, 2

## ERJ-6GEYJ751V
designator R?, comment 750R
RES SMD 750 OHM 5% 1/8W 0805; Manufacturer: Panasonic; Part Number: ERJ-6GEYJ751V; Temperature Coefficient: 200 PPM / C; Power Rating: 125 mW (1/8 W); Voltage Rating: 150 V; Library Control - Checked Footprint: Yes; Library Control - Person that Checked Footprint: Nikaum; Library Control - Person that Checked Schematic: Guilherme; Library Control - Person that did the Last Update Footprint: Dalarme; Supplier 1: Mouser; Category: Thick Film Resistors - SMD; Price: 1=0,10, 10=0,055, 100=0,021 (USD); Package / Case: 0805 (2012 Metric); Operating Temperature: - 55ºC ~ 155ºC; Value: 750R; Tolerance: 5 %; Library Ref: Resistor; Resistor Type: Fixed; Size / Dimension: 2 mm L x  1.25 mm W x  0.6 mm H; Supplier Part Number 1: 667-ERJ-6GEYJ751V; Library Control - Checked Schematic: Yes; Library Control - Last Update: 27/06/2021 20:29; Library Control - Person that did the Last Update Schematic: Nikaum; ComponentLink1Description: Mouser Link; ComponentLink1URL: https://br.mouser.com/ProductDetail/Panasonic/ERJ-6GEYJ751V?qs=sGAEpiMZZMukHu%252BjC5l7YYjpZ9X9PhOCxoCk8Svj5Vk%3D; ComponentLink2Description: Datasheet; ComponentLink2URL: https://br.mouser.com/datasheet/2/315/AOA0000C301-1488782.pdf
footprint RESISTOR_0805
pins: 1, 2

## ERJ-6RQJ1R0V
designator R?, comment 1R
RES SMD 1 OHM 5% 1/8W 0805; Manufacturer: Panasonic; Part Number: ERJ-6RQJ1R0V; Temperature Coefficient: 200 PPM / C; Power Rating: 125 mW (1/8 W); Library Control - Checked Footprint: No; Library Control - Checked Schematic: Yes; Library Control - Person that Checked Schematic: Marcos; Library Control - Person that did the Last Update Footprint: Dalarme; Supplier 1: Mouser; Category: Current Sense Resistors - SMD; Price: 1=0,4400, 10=0,17700, 100=0,0880 1000=0,0630(USD); Package / Case: 0805 (2012 Metric); Operating Temperature: - 55ºC ~ 125ºC; Value: 1R; Tolerance: 5 %; Voltage Rating: -; Library Ref: Resistor; Resistor Type: Fixo; Size / Dimension: 2 mm L x  1.2 mm W x  0.6 mm H; Supplier Part Number 1: 667-ERJ-6RQJ1R0V; Library Control - Last Update: 20/06/21 15:22; Library Control - Person that did the Last Update Schematic: Marcos; ComponentLink1Description: Mouser Link; ComponentLink1URL: https://br.mouser.com/ProductDetail/Panasonic/ERJ-6RQJ1R0V?qs=%2Fha2pyFadujWqMGonbcVXYgrT3JhghtAWM5KVP2vsx%252BYqIFZaqt%2Fzw%3D%3D; ComponentLink2Description: Datasheet Link; ComponentLink2URL: https://br.mouser.com/datasheet/2/315/AOA0000C313-1141758.pdf
footprint RESISTOR_0805
pins: 1, 2

## ERJ-8ENF71R5V
designator R?, comment 71.5 Ohms
RES SMD 71.5ohms 1% 1/4W 1206; Manufacturer: Panasonic; Part Number: ERJ-8ENF71R5V; Temperature Coefficient: 100 PPM / C; Power Rating: 250mW (1/4 W); Voltage Rating: 200 V; Library Control - Checked Footprint: Yes; Library Control - Person that Checked Footprint: Firme; Supplier 1: Mouser; Category: Thick Film Resistors - SMD; Price: 1 = 1,00, 10 = 0,137 , 100 = 0,062 (USD); Package / Case: 1206 (3216 metric); Operating Temperature: - 55 C~155 C; Value: 71.5 Ohms; Tolerance: 1 %; Library Ref: Resistor; Resistor Type: Fixo; Size / Dimension: 3,20 L x 1,60 W x 0,6 H; Supplier Part Number 1: 667-ERJ-8ENF71R5V; Library Control - Checked Schematic: Yes; Library Control - Last Update: 16/08/2022 16:22; Library Control - Person that Checked Schematic: Firme; Library Control - Person that did the Last Update Footprint: Firme; Library Control - Person that did the Last Update Schematic: Firme; ComponentLink1Description: Mouser Link; ComponentLink1URL: https://br.mouser.com/ProductDetail/Panasonic/ERJ-8ENF71R5V?qs=%2Fha2pyFaduicB9ZAvdW9RO4ZsFyBFIU32gr%2F8Uv0yA1znUuTj0fPTg%3D%3D; ComponentLink2Description: Datasheet Link; ComponentLink2URL: https://br.mouser.com/datasheet/2/315/AOA0000C304-1149620.pdf
footprint RESISTOR_1206
pins: 1, 2

## ERJ-T06J3R0V
designator R?, comment 3R
RES SMD 3 OHM 5% 1/4W 0805; Manufacturer: Panasonic; Part Number: ERJ-T06J3R0V; Temperature Coefficient: - 100 PPM / C, + 600 PPM / C; Power Rating: 250 mW (1/4 W); Voltage Rating: 150 V; Library Control - Checked Footprint: No; Library Control - Checked Schematic: Yes; Library Control - Person that did the Last Update Footprint: Dalarme; Supplier 1: Mouser; Category: Thick Film Resistors - SMD; Price: 1=0,32000, 25=0,13200, 100=0,05500 1000 = 0,04(USD); Package / Case: 0805 (2012 Metric); Operating Temperature: - 55ºC ~ 155ºC; Value: 3R; Tolerance: 5 %; Library Ref: Resistor; Resistor Type: Fixo; Size / Dimension: 2 mm L x  1.2 mm W x  0.6 mm H; Supplier Part Number 1: 667-ERJ-T06J3R0V; Library Control - Last Update: 20/06/21 15:26; Library Control - Person that did the Last Update Schematic: Dalarme; ComponentLink1Description: Mouser Link; ComponentLink1URL: https://www.mouser.com/ProductDetail/Panasonic/ERJ-T06J3R0V?qs=iIVTEDlrHA1yFM81e%252BgKUQ==; ComponentLink2Description: Datasheet Link; ComponentLink2URL: https://www.mouser.com/datasheet/2/315/powerR_erjt_e-1077525.pdf
footprint RESISTOR_0805
pins: 1, 2

## ERJ-U03F8060V
designator R?, comment 806 Ohms
RES SMD 806 OHM 1% 1/10W 0603; Manufacturer: Panasonic; Part Number: ERJ-U03F8060V; Temperature Coefficient: 100 PPM / C; Power Rating: 100 mW (1/10 W); Voltage Rating: 75V; Supplier 1: Mouser; Category: Thick Film Resistors - SMD; Price: 1= 0,16, 10= 0,132, 100= 0,051 (USD); Package / Case: 0603; Operating Temperature: -55C ~ +155C; Value: 806 Ohms; Tolerance: 1%; Library Ref: Resistor; Resistor Type: Thick Film; Size / Dimension: 0.35mm x 1mm x 0.5mm (HxLxW); Supplier Part Number 1: 667-ERJ-U03F8060V; ComponentLink1Description: Mouser Link; ComponentLink1URL: https://br.mouser.com/ProductDetail/Panasonic/ERJ-U03F8060V?qs=sGAEpiMZZMtlubZbdhIBIKJy1u7Ks2lIz7baTfO5Bgs%3D; ComponentLink2Description: Datasheet; ComponentLink2URL: https://br.mouser.com/datasheet/2/315/AOA0000C334-1314047.pdf
footprint RESISTOR_0603
pins: 1, 2

## ERJ-UP3F2211V
designator R?, comment 2,21kOhms
RES SMD 2,21K Ohms 1% 1/4W 0603; Manufacturer: Panasonic; Part Number: ERJ-UP3F2211V; Temperature Coefficient: 100 PPM / C; Power Rating: 250mW (1/4W); Voltage Rating: 150V; Supplier 1: Mouser; Category: Thick Film Resistors - SMD; Price: 1=0,10, 10=0,04, 100=0,016 1000=0,008 (USD); Package / Case: 0603; Operating Temperature: - 55ºC ~ 155ºC; Value: 2,21kOhms; Tolerance: 1%; Library Ref: Resistor; Resistor Type: Fixo; Supplier Part Number 1: 667-ERJ-UP3F2211V; ComponentLink1Description: Mouser Link; ComponentLink1URL: https://br.mouser.com/ProductDetail/Panasonic/ERJ-UP3F2211V?qs=sGAEpiMZZMvdGkrng054twKDKoBh%252BscnKYPCuxTfiLYQythjvVFxfw%3D%3D; ComponentLink2Description: Datasheet Link; ComponentLink2URL: https://br.mouser.com/datasheet/2/315/Panasonic_Resistors_Thick_Film_Anti_Sulf_Anti_Surg-1825099.pdf
footprint RESISTOR_0603
pins: 1, 2

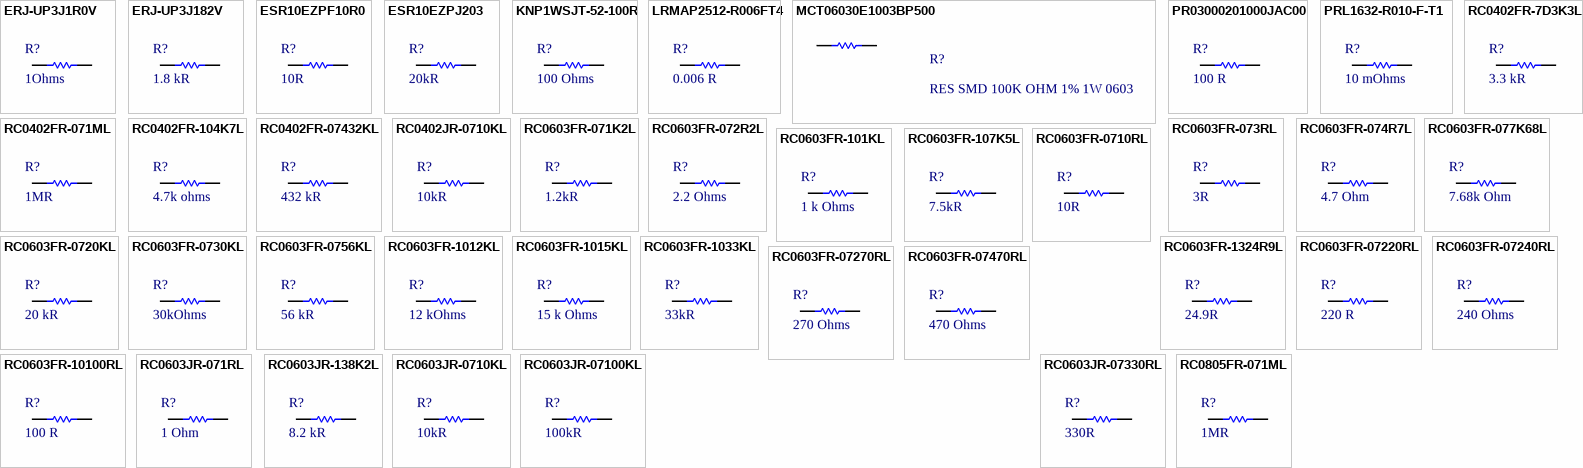
[diagram p2: symbols ERJ-UP3J1R0V to RC0805FR-071ML]

## ERJ-UP3J1R0V
designator R?, comment 1Ohms
RES SMD 1 OHMS 5% 1/4W 0603; Manufacturer: Panasonic; Part Number: ERJ-UP3J1R0V; Temperature Coefficient: 100 PPM / C; Power Rating: 250 mW (1/4 W); Voltage Rating: 150 V; Library Control - Person that did the Last Update Footprint: Firme; Supplier 1: Mouser; Category: Thick Film Resistors - SMD; Price: 1=0,16, 10=0,143, 100=0,056(USD); Package / Case: 0603 (1608 Metric); Operating Temperature: - 55°C ~ 155°C; Value: 1Ohms; Tolerance: 5 %; Library Ref: Resistor; Resistor Type: Fixo; Size / Dimension: 1,6 L x 0,8 W x 0,4 H; Supplier Part Number 1: 667-ERJ-UP3J1R0V; Library Control - Last Update: 22/09/2022; Library Control - Person that did the Last Update Schematic: Firme; ComponentLink1Description: Mouser Link; ComponentLink1URL: https://br.mouser.com/ProductDetail/Panasonic/ERJ-UP3J1R0V?qs=sGAEpiMZZMtlubZbdhIBINZyO39%252BOXIf%252BCoxaN2YEdQ%3D; ComponentLink2Description: Datasheet; ComponentLink2URL: https://br.mouser.com/datasheet/2/315/Panasonic_Resistors_Thick_Film_Anti_Sulf_Anti_Surg-1825099.pdf
footprint RESISTOR_0603
pins: 1, 2

## ERJ-UP3J182V
designator R?, comment 1.8 kR
RES SMD 1.8K OHM 5% 1/4W 0603; Manufacturer: Panasonic; Part Number: ERJ-UP3J182V; Temperature Coefficient: 100 PPM / C; Power Rating: 250mW (1/4 W); Voltage Rating: 150 V; Library Control - Checked Footprint: Yes; Library Control - Person that Checked Footprint: Nikaum; Library Control - Person that did the Last Update Footprint: Nicolas; Supplier 1: Mouser; Category: Thick Film Resistors - SMD; Price: 1 = 0,18, 10 = 0,15, 100 = 0,058 (USD); Package / Case: 0603 (1608 metric); Operating Temperature: - 55 C~155 C; Value: 1.8 kR; Tolerance: 5 %; Library Ref: Resistor; Resistor Type: Fixo; Size / Dimension: 1,60 L x 0,80 W x 0,45 H; Supplier Part Number 1: 667-ERJ-UP3J182V; Library Control - Checked Schematic: Yes; Library Control - Last Update: 27/06/2021 21:40; Library Control - Person that Checked Schematic: Nikaum; Library Control - Person that did the Last Update Schematic: Nikaum; ComponentLink1Description: Mouser Link; ComponentLink1URL: https://br.mouser.com/ProductDetail/Panasonic/ERJ-UP3J182V?qs=GedFDFLaBXEdz0KjUYQ0%2FQ%3D%3D; ComponentLink2Description: Datasheet Link; ComponentLink2URL: https://br.mouser.com/datasheet/2/315/Panasonic_Resistors_Thick_Film_Anti_Sulf_Anti_Surg-1825099.pdf
footprint RESISTOR_0603
pins: 1, 2

## ESR10EZPF10R0
designator R?, comment 10R
RES SMD 10 OHM 1% 2/5W 0805; Manufacturer: ROHM Semiconductor; Part Number: ESR10EZPF10R0; Temperature Coefficient: 100 PPM / C; Power Rating: 400 mW (2/5 W); Voltage Rating: 150 V; Library Control - Checked Footprint: No; Library Control - Checked Schematic: Yes; Library Control - Person that Checked Schematic: Marcos; Library Control - Person that did the Last Update Footprint: Dalarme; Supplier 1: Mouser; Category: Thick Film Resistors - SMD; Price: 1=0,15, 10=0,109, 100=0,053 1000=0,021(USD); Package / Case: 0805 (2012 Metric); Operating Temperature: - 55ºC ~ 155ºC; Value: 10R; Tolerance: 1 %; Library Ref: Resistor; Resistor Type: Fixo; Size / Dimension: 2 mm L x  1.25 mm W x  0.55 mm H; Supplier Part Number 1: 755-ESR10EZPF10R0; Library Control - Last Update: 20/06/21 16:20; Library Control - Person that did the Last Update Schematic: Marcos; ComponentLink1Description: Mouser Link; ComponentLink1URL: https://www.mouser.com/ProductDetail/ROHM-Semiconductor/ESR10EZPF10R0?qs=DyUWGjl%252BcVsB2QZH3OK%252BdA%3D%3D; ComponentLink2Description: Datasheet Link; ComponentLink2URL: https://www.mouser.com/datasheet/2/348/esr_e-1139161.pdf
footprint RESISTOR_0805
pins: 1, 2